# Altium footprint library STM32F4系列.PcbLib: 30 footprints (part 2 of 2)
Each footprint in its own frame and in the unit in brackets; x right, y up, seen from the top. Pads: shape width x height; smd on the part's side, far side on the other; paste and mask are expansions set on the pad; w line width, h text height; cw(c..) or ccw(c..) is an arc to the next point about the centre after c.
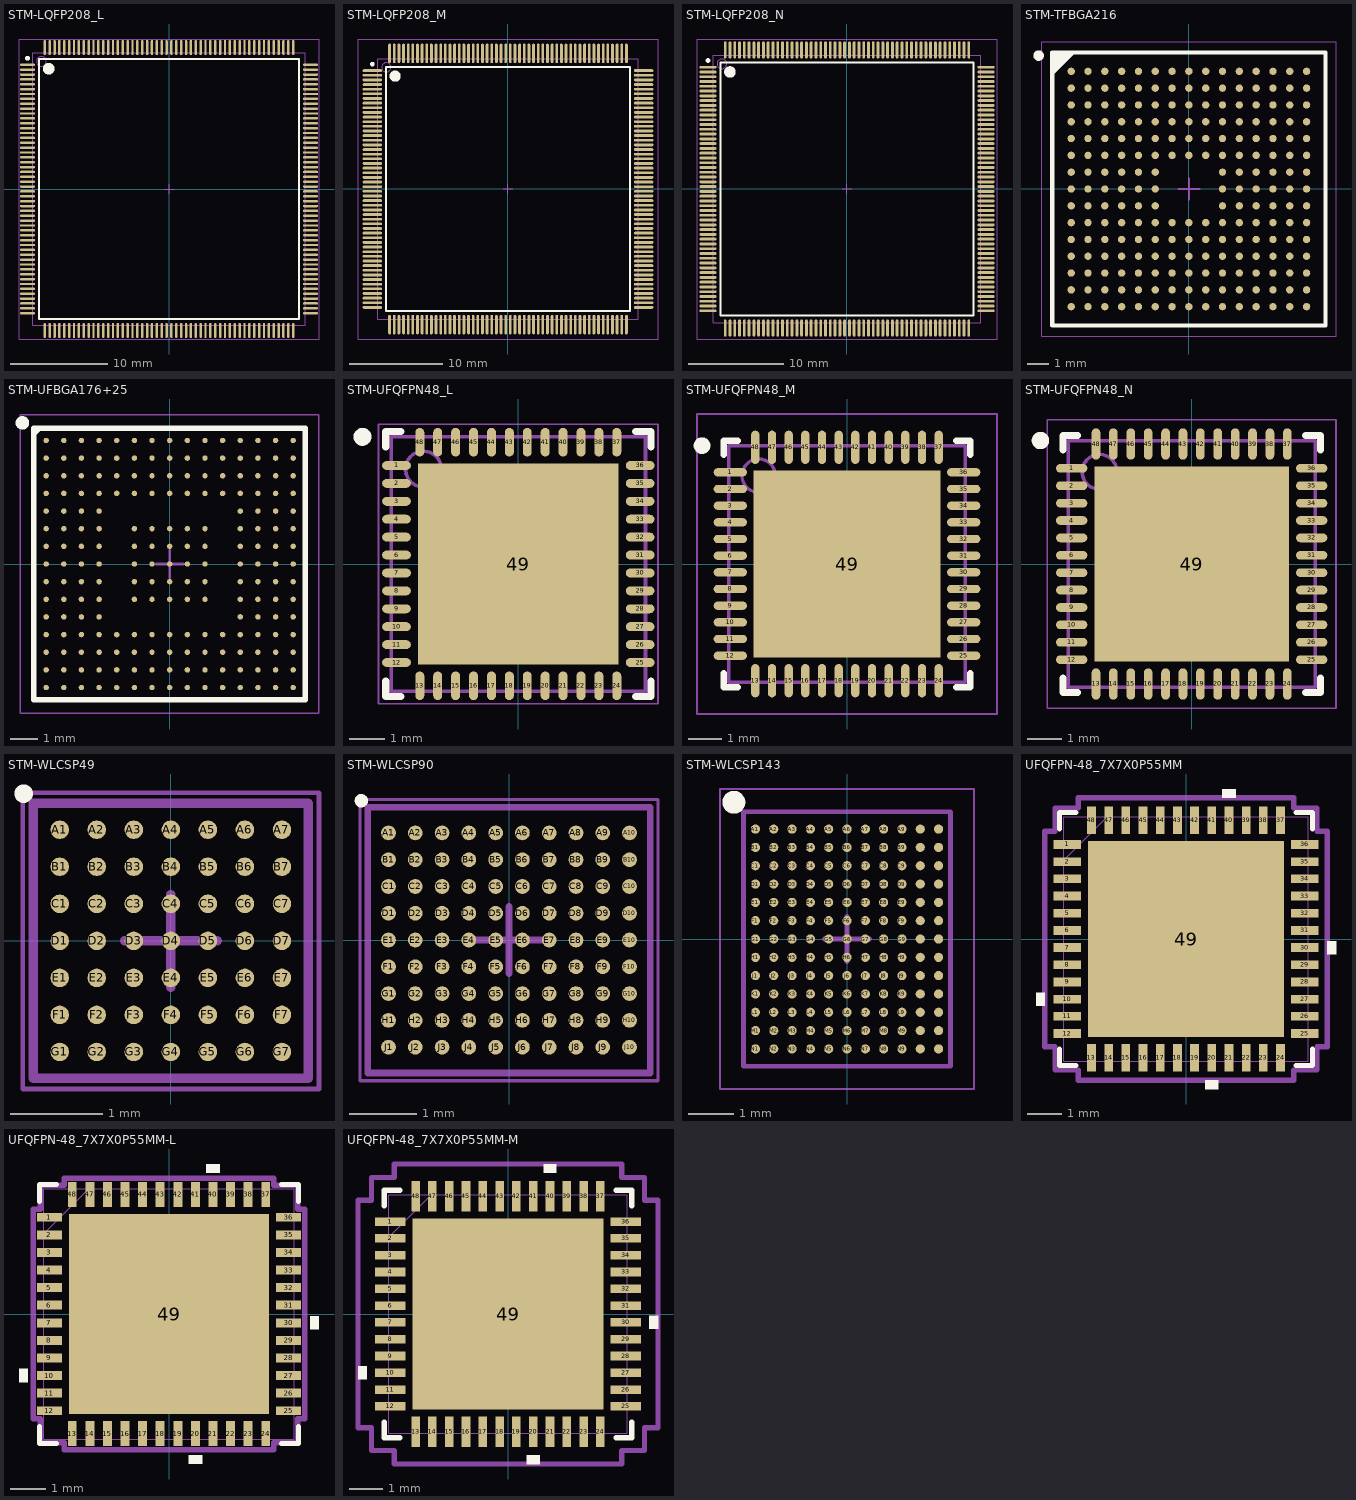
[diagram p1: the footprints below, top view; thin cyan lines are the x and y axes]

## STM-LQFP208_L [mm] "QFP, 208-Leads, Body 28x28mm, Pitch 0.5mm, IPC High Density"
height 1.6
pads (208):
  oval 1.55x0.25 smd: 1(-14.525,12.75) 2(-14.525,12.25) 3(-14.525,11.75) 4(-14.525,11.25) 5(-14.525,10.75) 6(-14.525,10.25) 7(-14.525,9.75) 8(-14.525,9.25) 9(-14.525,8.75) 10(-14.525,8.25) 11(-14.525,7.75) 12(-14.525,7.25) 13(-14.525,6.75) 14(-14.525,6.25) 15(-14.525,5.75) 16(-14.525,5.25) 17(-14.525,4.75) 18(-14.525,4.25) 19(-14.525,3.75) 20(-14.525,3.25) 21(-14.525,2.75) 22(-14.525,2.25) 23(-14.525,1.75) 24(-14.525,1.25) 25(-14.525,0.75) 26(-14.525,0.25) 27(-14.525,-0.25) 28(-14.525,-0.75) 29(-14.525,-1.25) 30(-14.525,-1.75) 31(-14.525,-2.25) 32(-14.525,-2.75) 33(-14.525,-3.25) 34(-14.525,-3.75) 35(-14.525,-4.25) 36(-14.525,-4.75) 37(-14.525,-5.25) 38(-14.525,-5.75) 39(-14.525,-6.25) 40(-14.525,-6.75) 41(-14.525,-7.25) 42(-14.525,-7.75) 43(-14.525,-8.25) 44(-14.525,-8.75) 45(-14.525,-9.25) 46(-14.525,-9.75) 47(-14.525,-10.25) 48(-14.525,-10.75) 49(-14.525,-11.25) 50(-14.525,-11.75) 51(-14.525,-12.25) 52(-14.525,-12.75) 105(14.525,-12.75) 106(14.525,-12.25) 107(14.525,-11.75) 108(14.525,-11.25) 109(14.525,-10.75) 110(14.525,-10.25) 111(14.525,-9.75) 112(14.525,-9.25) 113(14.525,-8.75) 114(14.525,-8.25) 115(14.525,-7.75) 116(14.525,-7.25) 117(14.525,-6.75) 118(14.525,-6.25) 119(14.525,-5.75) 120(14.525,-5.25) 121(14.525,-4.75) 122(14.525,-4.25) 123(14.525,-3.75) 124(14.525,-3.25) 125(14.525,-2.75) 126(14.525,-2.25) 127(14.525,-1.75) 128(14.525,-1.25) 129(14.525,-0.75) 130(14.525,-0.25) 131(14.525,0.25) 132(14.525,0.75) 133(14.525,1.25) 134(14.525,1.75) 135(14.525,2.25) 136(14.525,2.75) 137(14.525,3.25) 138(14.525,3.75) 139(14.525,4.25) 140(14.525,4.75) 141(14.525,5.25) 142(14.525,5.75) 143(14.525,6.25) 144(14.525,6.75) 145(14.525,7.25) 146(14.525,7.75) 147(14.525,8.25) 148(14.525,8.75) 149(14.525,9.25) 150(14.525,9.75) 151(14.525,10.25) 152(14.525,10.75) 153(14.525,11.25) 154(14.525,11.75) 155(14.525,12.25) 156(14.525,12.75)
  oval 0.25x1.55 smd: 53(-12.75,-14.525) 54(-12.25,-14.525) 55(-11.75,-14.525) 56(-11.25,-14.525) 57(-10.75,-14.525) 58(-10.25,-14.525) 59(-9.75,-14.525) 60(-9.25,-14.525) 61(-8.75,-14.525) 62(-8.25,-14.525) 63(-7.75,-14.525) 64(-7.25,-14.525) 65(-6.75,-14.525) 66(-6.25,-14.525) 67(-5.75,-14.525) 68(-5.25,-14.525) 69(-4.75,-14.525) 70(-4.25,-14.525) 71(-3.75,-14.525) 72(-3.25,-14.525) 73(-2.75,-14.525) 74(-2.25,-14.525) 75(-1.75,-14.525) 76(-1.25,-14.525) 77(-0.75,-14.525) 78(-0.25,-14.525) 79(0.25,-14.525) 80(0.75,-14.525) 81(1.25,-14.525) 82(1.75,-14.525) 83(2.25,-14.525) 84(2.75,-14.525) 85(3.25,-14.525) 86(3.75,-14.525) 87(4.25,-14.525) 88(4.75,-14.525) 89(5.25,-14.525) 90(5.75,-14.525) 91(6.25,-14.525) 92(6.75,-14.525) 93(7.25,-14.525) 94(7.75,-14.525) 95(8.25,-14.525) 96(8.75,-14.525) 97(9.25,-14.525) 98(9.75,-14.525) 99(10.25,-14.525) 100(10.75,-14.525) 101(11.25,-14.525) 102(11.75,-14.525) 103(12.25,-14.525) 104(12.75,-14.525) 157(12.75,14.525) 158(12.25,14.525) 159(11.75,14.525) 160(11.25,14.525) 161(10.75,14.525) 162(10.25,14.525) 163(9.75,14.525) 164(9.25,14.525) 165(8.75,14.525) 166(8.25,14.525) 167(7.75,14.525) 168(7.25,14.525) 169(6.75,14.525) 170(6.25,14.525) 171(5.75,14.525) 172(5.25,14.525) 173(4.75,14.525) 174(4.25,14.525) 175(3.75,14.525) 176(3.25,14.525) 177(2.75,14.525) 178(2.25,14.525) 179(1.75,14.525) 180(1.25,14.525) 181(0.75,14.525) 182(0.25,14.525) 183(-0.25,14.525) 184(-0.75,14.525) 185(-1.25,14.525) 186(-1.75,14.525) 187(-2.25,14.525) 188(-2.75,14.525) 189(-3.25,14.525) 190(-3.75,14.525) 191(-4.25,14.525) 192(-4.75,14.525) 193(-5.25,14.525) 194(-5.75,14.525) 195(-6.25,14.525) 196(-6.75,14.525) 197(-7.25,14.525) 198(-7.75,14.525) 199(-8.25,14.525) 200(-8.75,14.525) 201(-9.25,14.525) 202(-9.75,14.525) 203(-10.25,14.525) 204(-10.75,14.525) 205(-11.25,14.525) 206(-11.75,14.525) 207(-12.25,14.525) 208(-12.75,14.525)
Top Overlay:
  circle w0.25: c-14.525,13.425 r0.125
  circle w0.6: c-12.35,12.35 r0.3
  lines w0.2: -13.35,-13.35 -13.35,13.35 13.35,13.35 13.35,-13.35 -13.35,-13.35
Mechanical 13:
  circle w0.1: c-13.1,13.1 r0.5
  lines w0.1: -14,-14 -14,14 14,14 14,-14 -14,-14
Mechanical 15:
  lines w0.05: -15.4,-15.4 -15.4,15.4 15.4,15.4 15.4,-15.4 -15.4,-15.4
  lines w0.1: -0.5,0 0.5,0 ; 0,-0.5 0,0.5
3D body: height 1.6, standoff 0.05, extent -14,-14 14,14

## STM-LQFP208_M [mm] "QFP, 208-Leads, Body 28x28mm, Pitch 0.5mm, IPC Low Density"
height 1.6
pads (208):
  oval 2.1x0.3 smd: 1(-14.6,12.75) 2(-14.6,12.25) 3(-14.6,11.75) 4(-14.6,11.25) 5(-14.6,10.75) 6(-14.6,10.25) 7(-14.6,9.75) 8(-14.6,9.25) 9(-14.6,8.75) 10(-14.6,8.25) 11(-14.6,7.75) 12(-14.6,7.25) 13(-14.6,6.75) 14(-14.6,6.25) 15(-14.6,5.75) 16(-14.6,5.25) 17(-14.6,4.75) 18(-14.6,4.25) 19(-14.6,3.75) 20(-14.6,3.25) 21(-14.6,2.75) 22(-14.6,2.25) 23(-14.6,1.75) 24(-14.6,1.25) 25(-14.6,0.75) 26(-14.6,0.25) 27(-14.6,-0.25) 28(-14.6,-0.75) 29(-14.6,-1.25) 30(-14.6,-1.75) 31(-14.6,-2.25) 32(-14.6,-2.75) 33(-14.6,-3.25) 34(-14.6,-3.75) 35(-14.6,-4.25) 36(-14.6,-4.75) 37(-14.6,-5.25) 38(-14.6,-5.75) 39(-14.6,-6.25) 40(-14.6,-6.75) 41(-14.6,-7.25) 42(-14.6,-7.75) 43(-14.6,-8.25) 44(-14.6,-8.75) 45(-14.6,-9.25) 46(-14.6,-9.75) 47(-14.6,-10.25) 48(-14.6,-10.75) 49(-14.6,-11.25) 50(-14.6,-11.75) 51(-14.6,-12.25) 52(-14.6,-12.75) 105(14.6,-12.75) 106(14.6,-12.25) 107(14.6,-11.75) 108(14.6,-11.25) 109(14.6,-10.75) 110(14.6,-10.25) 111(14.6,-9.75) 112(14.6,-9.25) 113(14.6,-8.75) 114(14.6,-8.25) 115(14.6,-7.75) 116(14.6,-7.25) 117(14.6,-6.75) 118(14.6,-6.25) 119(14.6,-5.75) 120(14.6,-5.25) 121(14.6,-4.75) 122(14.6,-4.25) 123(14.6,-3.75) 124(14.6,-3.25) 125(14.6,-2.75) 126(14.6,-2.25) 127(14.6,-1.75) 128(14.6,-1.25) 129(14.6,-0.75) 130(14.6,-0.25) 131(14.6,0.25) 132(14.6,0.75) 133(14.6,1.25) 134(14.6,1.75) 135(14.6,2.25) 136(14.6,2.75) 137(14.6,3.25) 138(14.6,3.75) 139(14.6,4.25) 140(14.6,4.75) 141(14.6,5.25) 142(14.6,5.75) 143(14.6,6.25) 144(14.6,6.75) 145(14.6,7.25) 146(14.6,7.75) 147(14.6,8.25) 148(14.6,8.75) 149(14.6,9.25) 150(14.6,9.75) 151(14.6,10.25) 152(14.6,10.75) 153(14.6,11.25) 154(14.6,11.75) 155(14.6,12.25) 156(14.6,12.75)
  oval 0.3x2.1 smd: 53(-12.75,-14.6) 54(-12.25,-14.6) 55(-11.75,-14.6) 56(-11.25,-14.6) 57(-10.75,-14.6) 58(-10.25,-14.6) 59(-9.75,-14.6) 60(-9.25,-14.6) 61(-8.75,-14.6) 62(-8.25,-14.6) 63(-7.75,-14.6) 64(-7.25,-14.6) 65(-6.75,-14.6) 66(-6.25,-14.6) 67(-5.75,-14.6) 68(-5.25,-14.6) 69(-4.75,-14.6) 70(-4.25,-14.6) 71(-3.75,-14.6) 72(-3.25,-14.6) 73(-2.75,-14.6) 74(-2.25,-14.6) 75(-1.75,-14.6) 76(-1.25,-14.6) 77(-0.75,-14.6) 78(-0.25,-14.6) 79(0.25,-14.6) 80(0.75,-14.6) 81(1.25,-14.6) 82(1.75,-14.6) 83(2.25,-14.6) 84(2.75,-14.6) 85(3.25,-14.6) 86(3.75,-14.6) 87(4.25,-14.6) 88(4.75,-14.6) 89(5.25,-14.6) 90(5.75,-14.6) 91(6.25,-14.6) 92(6.75,-14.6) 93(7.25,-14.6) 94(7.75,-14.6) 95(8.25,-14.6) 96(8.75,-14.6) 97(9.25,-14.6) 98(9.75,-14.6) 99(10.25,-14.6) 100(10.75,-14.6) 101(11.25,-14.6) 102(11.75,-14.6) 103(12.25,-14.6) 104(12.75,-14.6) 157(12.75,14.6) 158(12.25,14.6) 159(11.75,14.6) 160(11.25,14.6) 161(10.75,14.6) 162(10.25,14.6) 163(9.75,14.6) 164(9.25,14.6) 165(8.75,14.6) 166(8.25,14.6) 167(7.75,14.6) 168(7.25,14.6) 169(6.75,14.6) 170(6.25,14.6) 171(5.75,14.6) 172(5.25,14.6) 173(4.75,14.6) 174(4.25,14.6) 175(3.75,14.6) 176(3.25,14.6) 177(2.75,14.6) 178(2.25,14.6) 179(1.75,14.6) 180(1.25,14.6) 181(0.75,14.6) 182(0.25,14.6) 183(-0.25,14.6) 184(-0.75,14.6) 185(-1.25,14.6) 186(-1.75,14.6) 187(-2.25,14.6) 188(-2.75,14.6) 189(-3.25,14.6) 190(-3.75,14.6) 191(-4.25,14.6) 192(-4.75,14.6) 193(-5.25,14.6) 194(-5.75,14.6) 195(-6.25,14.6) 196(-6.75,14.6) 197(-7.25,14.6) 198(-7.75,14.6) 199(-8.25,14.6) 200(-8.75,14.6) 201(-9.25,14.6) 202(-9.75,14.6) 203(-10.25,14.6) 204(-10.75,14.6) 205(-11.25,14.6) 206(-11.75,14.6) 207(-12.25,14.6) 208(-12.75,14.6)
Top Overlay:
  circle w0.25: c-14.6,13.45 r0.125
  circle w0.6: c-12.15,12.15 r0.3
  lines w0.2: -13.15,-13.15 -13.15,13.15 13.15,13.15 13.15,-13.15 -13.15,-13.15
Mechanical 13:
  circle w0.1: c-13.1,13.1 r0.5
  lines w0.1: -14,-14 -14,14 14,14 14,-14 -14,-14
Mechanical 15:
  lines w0.05: -16.15,-16.15 -16.15,16.15 16.15,16.15 16.15,-16.15 -16.15,-16.15
  lines w0.1: -0.5,0 0.5,0 ; 0,-0.5 0,0.5
3D body: height 1.6, standoff 0.05, extent -14,-14 14,14

## STM-LQFP208_N [mm] "QFP, 208-Leads, Body 28x28mm, Pitch 0.5mm, IPC Medium Density"
height 1.6
pads (208):
  oval 1.8x0.3 smd: 1(-14.55,12.75) 2(-14.55,12.25) 3(-14.55,11.75) 4(-14.55,11.25) 5(-14.55,10.75) 6(-14.55,10.25) 7(-14.55,9.75) 8(-14.55,9.25) 9(-14.55,8.75) 10(-14.55,8.25) 11(-14.55,7.75) 12(-14.55,7.25) 13(-14.55,6.75) 14(-14.55,6.25) 15(-14.55,5.75) 16(-14.55,5.25) 17(-14.55,4.75) 18(-14.55,4.25) 19(-14.55,3.75) 20(-14.55,3.25) 21(-14.55,2.75) 22(-14.55,2.25) 23(-14.55,1.75) 24(-14.55,1.25) 25(-14.55,0.75) 26(-14.55,0.25) 27(-14.55,-0.25) 28(-14.55,-0.75) 29(-14.55,-1.25) 30(-14.55,-1.75) 31(-14.55,-2.25) 32(-14.55,-2.75) 33(-14.55,-3.25) 34(-14.55,-3.75) 35(-14.55,-4.25) 36(-14.55,-4.75) 37(-14.55,-5.25) 38(-14.55,-5.75) 39(-14.55,-6.25) 40(-14.55,-6.75) 41(-14.55,-7.25) 42(-14.55,-7.75) 43(-14.55,-8.25) 44(-14.55,-8.75) 45(-14.55,-9.25) 46(-14.55,-9.75) 47(-14.55,-10.25) 48(-14.55,-10.75) 49(-14.55,-11.25) 50(-14.55,-11.75) 51(-14.55,-12.25) 52(-14.55,-12.75) 105(14.55,-12.75) 106(14.55,-12.25) 107(14.55,-11.75) 108(14.55,-11.25) 109(14.55,-10.75) 110(14.55,-10.25) 111(14.55,-9.75) 112(14.55,-9.25) 113(14.55,-8.75) 114(14.55,-8.25) 115(14.55,-7.75) 116(14.55,-7.25) 117(14.55,-6.75) 118(14.55,-6.25) 119(14.55,-5.75) 120(14.55,-5.25) 121(14.55,-4.75) 122(14.55,-4.25) 123(14.55,-3.75) 124(14.55,-3.25) 125(14.55,-2.75) 126(14.55,-2.25) 127(14.55,-1.75) 128(14.55,-1.25) 129(14.55,-0.75) 130(14.55,-0.25) 131(14.55,0.25) 132(14.55,0.75) 133(14.55,1.25) 134(14.55,1.75) 135(14.55,2.25) 136(14.55,2.75) 137(14.55,3.25) 138(14.55,3.75) 139(14.55,4.25) 140(14.55,4.75) 141(14.55,5.25) 142(14.55,5.75) 143(14.55,6.25) 144(14.55,6.75) 145(14.55,7.25) 146(14.55,7.75) 147(14.55,8.25) 148(14.55,8.75) 149(14.55,9.25) 150(14.55,9.75) 151(14.55,10.25) 152(14.55,10.75) 153(14.55,11.25) 154(14.55,11.75) 155(14.55,12.25) 156(14.55,12.75)
  oval 0.3x1.8 smd: 53(-12.75,-14.55) 54(-12.25,-14.55) 55(-11.75,-14.55) 56(-11.25,-14.55) 57(-10.75,-14.55) 58(-10.25,-14.55) 59(-9.75,-14.55) 60(-9.25,-14.55) 61(-8.75,-14.55) 62(-8.25,-14.55) 63(-7.75,-14.55) 64(-7.25,-14.55) 65(-6.75,-14.55) 66(-6.25,-14.55) 67(-5.75,-14.55) 68(-5.25,-14.55) 69(-4.75,-14.55) 70(-4.25,-14.55) 71(-3.75,-14.55) 72(-3.25,-14.55) 73(-2.75,-14.55) 74(-2.25,-14.55) 75(-1.75,-14.55) 76(-1.25,-14.55) 77(-0.75,-14.55) 78(-0.25,-14.55) 79(0.25,-14.55) 80(0.75,-14.55) 81(1.25,-14.55) 82(1.75,-14.55) 83(2.25,-14.55) 84(2.75,-14.55) 85(3.25,-14.55) 86(3.75,-14.55) 87(4.25,-14.55) 88(4.75,-14.55) 89(5.25,-14.55) 90(5.75,-14.55) 91(6.25,-14.55) 92(6.75,-14.55) 93(7.25,-14.55) 94(7.75,-14.55) 95(8.25,-14.55) 96(8.75,-14.55) 97(9.25,-14.55) 98(9.75,-14.55) 99(10.25,-14.55) 100(10.75,-14.55) 101(11.25,-14.55) 102(11.75,-14.55) 103(12.25,-14.55) 104(12.75,-14.55) 157(12.75,14.55) 158(12.25,14.55) 159(11.75,14.55) 160(11.25,14.55) 161(10.75,14.55) 162(10.25,14.55) 163(9.75,14.55) 164(9.25,14.55) 165(8.75,14.55) 166(8.25,14.55) 167(7.75,14.55) 168(7.25,14.55) 169(6.75,14.55) 170(6.25,14.55) 171(5.75,14.55) 172(5.25,14.55) 173(4.75,14.55) 174(4.25,14.55) 175(3.75,14.55) 176(3.25,14.55) 177(2.75,14.55) 178(2.25,14.55) 179(1.75,14.55) 180(1.25,14.55) 181(0.75,14.55) 182(0.25,14.55) 183(-0.25,14.55) 184(-0.75,14.55) 185(-1.25,14.55) 186(-1.75,14.55) 187(-2.25,14.55) 188(-2.75,14.55) 189(-3.25,14.55) 190(-3.75,14.55) 191(-4.25,14.55) 192(-4.75,14.55) 193(-5.25,14.55) 194(-5.75,14.55) 195(-6.25,14.55) 196(-6.75,14.55) 197(-7.25,14.55) 198(-7.75,14.55) 199(-8.25,14.55) 200(-8.75,14.55) 201(-9.25,14.55) 202(-9.75,14.55) 203(-10.25,14.55) 204(-10.75,14.55) 205(-11.25,14.55) 206(-11.75,14.55) 207(-12.25,14.55) 208(-12.75,14.55)
Top Overlay:
  circle w0.25: c-14.55,13.45 r0.125
  circle w0.6: c-12.25,12.25 r0.3
  lines w0.2: -13.25,-13.25 -13.25,13.25 13.25,13.25 13.25,-13.25 -13.25,-13.25
Mechanical 13:
  circle w0.1: c-13.1,13.1 r0.5
  lines w0.1: -14,-14 -14,14 14,14 14,-14 -14,-14
Mechanical 15:
  lines w0.05: -15.7,-15.7 -15.7,15.7 15.7,15.7 15.7,-15.7 -15.7,-15.7
  lines w0.1: -0.5,0 0.5,0 ; 0,-0.5 0,0.5
3D body: height 1.6, standoff 0.05, extent -14,-14 14,14

## STM-TFBGA216 [mm] "BGA, 216-Balls, Body 13x13mm, Pitch 0.8mm"
height 1.1
pads (216):
  round 0.35 smd: A1(-5.6,5.6) A2(-4.8,5.6) A3(-4,5.6) A4(-3.2,5.6) A5(-2.4,5.6) A6(-1.6,5.6) A7(-0.8,5.6) A8(0,5.6) A9(0.8,5.6) A10(1.6,5.6) A11(2.4,5.6) A12(3.2,5.6) A13(4,5.6) A14(4.8,5.6) A15(5.6,5.6) B1(-5.6,4.8) B2(-4.8,4.8) B3(-4,4.8) B4(-3.2,4.8) B5(-2.4,4.8) B6(-1.6,4.8) B7(-0.8,4.8) B8(0,4.8) B9(0.8,4.8) B10(1.6,4.8) B11(2.4,4.8) B12(3.2,4.8) B13(4,4.8) B14(4.8,4.8) B15(5.6,4.8) C1(-5.6,4) C2(-4.8,4) C3(-4,4) C4(-3.2,4) C5(-2.4,4) C6(-1.6,4) C7(-0.8,4) C8(0,4) C9(0.8,4) C10(1.6,4) C11(2.4,4) C12(3.2,4) C13(4,4) C14(4.8,4) C15(5.6,4) D1(-5.6,3.2) D2(-4.8,3.2) D3(-4,3.2) D4(-3.2,3.2) D5(-2.4,3.2) D6(-1.6,3.2) D7(-0.8,3.2) D8(0,3.2) D9(0.8,3.2) D10(1.6,3.2) D11(2.4,3.2) D12(3.2,3.2) D13(4,3.2) D14(4.8,3.2) D15(5.6,3.2) E1(-5.6,2.4) E2(-4.8,2.4) E3(-4,2.4) E4(-3.2,2.4) E5(-2.4,2.4) E6(-1.6,2.4) E7(-0.8,2.4) E8(0,2.4) E9(0.8,2.4) E10(1.6,2.4) E11(2.4,2.4) E12(3.2,2.4) E13(4,2.4) E14(4.8,2.4) E15(5.6,2.4) F1(-5.6,1.6) F2(-4.8,1.6) F3(-4,1.6) F4(-3.2,1.6) F5(-2.4,1.6) F6(-1.6,1.6) F7(-0.8,1.6) F8(0,1.6) F9(0.8,1.6) F10(1.6,1.6) F11(2.4,1.6) F12(3.2,1.6) F13(4,1.6) F14(4.8,1.6) F15(5.6,1.6) G1(-5.6,0.8) G2(-4.8,0.8) G3(-4,0.8) G4(-3.2,0.8) G5(-2.4,0.8) G6(-1.6,0.8) G10(1.6,0.8) G11(2.4,0.8) G12(3.2,0.8) G13(4,0.8) G14(4.8,0.8) G15(5.6,0.8) H1(-5.6,0) H2(-4.8,0) H3(-4,0) H4(-3.2,0) H5(-2.4,0) H6(-1.6,0) H10(1.6,0) H11(2.4,0) H12(3.2,0) H13(4,0) H14(4.8,0) H15(5.6,0) J1(-5.6,-0.8) J2(-4.8,-0.8) J3(-4,-0.8) J4(-3.2,-0.8) J5(-2.4,-0.8) J6(-1.6,-0.8) J10(1.6,-0.8) J11(2.4,-0.8) J12(3.2,-0.8) J13(4,-0.8) J14(4.8,-0.8) J15(5.6,-0.8) K1(-5.6,-1.6) K2(-4.8,-1.6) K3(-4,-1.6) K4(-3.2,-1.6) K5(-2.4,-1.6) K6(-1.6,-1.6) K7(-0.8,-1.6) K8(0,-1.6) K9(0.8,-1.6) K10(1.6,-1.6) K11(2.4,-1.6) K12(3.2,-1.6) K13(4,-1.6) K14(4.8,-1.6) K15(5.6,-1.6) L1(-5.6,-2.4) L2(-4.8,-2.4) L3(-4,-2.4) L4(-3.2,-2.4) L5(-2.4,-2.4) L6(-1.6,-2.4) L7(-0.8,-2.4) L8(0,-2.4) L9(0.8,-2.4) L10(1.6,-2.4) L11(2.4,-2.4) L12(3.2,-2.4) L13(4,-2.4) L14(4.8,-2.4) L15(5.6,-2.4) M1(-5.6,-3.2) M2(-4.8,-3.2) M3(-4,-3.2) M4(-3.2,-3.2) M5(-2.4,-3.2) M6(-1.6,-3.2) M7(-0.8,-3.2) M8(0,-3.2) M9(0.8,-3.2) M10(1.6,-3.2) M11(2.4,-3.2) M12(3.2,-3.2) M13(4,-3.2) M14(4.8,-3.2) M15(5.6,-3.2) N1(-5.6,-4) N2(-4.8,-4) N3(-4,-4) N4(-3.2,-4) N5(-2.4,-4) N6(-1.6,-4) N7(-0.8,-4) N8(0,-4) N9(0.8,-4) N10(1.6,-4) N11(2.4,-4) N12(3.2,-4) N13(4,-4) N14(4.8,-4) N15(5.6,-4) P1(-5.6,-4.8) P2(-4.8,-4.8) P3(-4,-4.8) P4(-3.2,-4.8) P5(-2.4,-4.8) P6(-1.6,-4.8) P7(-0.8,-4.8) P8(0,-4.8) P9(0.8,-4.8) P10(1.6,-4.8) P11(2.4,-4.8) P12(3.2,-4.8) P13(4,-4.8) P14(4.8,-4.8) P15(5.6,-4.8) R1(-5.6,-5.6) R2(-4.8,-5.6) R3(-4,-5.6) R4(-3.2,-5.6) R5(-2.4,-5.6) R6(-1.6,-5.6) R7(-0.8,-5.6) R8(0,-5.6) R9(0.8,-5.6) R10(1.6,-5.6) R11(2.4,-5.6) R12(3.2,-5.6) R13(4,-5.6) R14(4.8,-5.6) R15(5.6,-5.6)
Top Overlay:
  circle w0.25: c-7.15,6.35 r0.125
  region: -5.513,6.5 -6.5,5.513 -6.5,6.5
  lines w0.2: -6.5,5.513 -5.513,6.5 ; -6.5,-6.5 6.5,-6.5 6.5,6.5 -6.5,6.5 -6.5,-6.5
Mechanical 13:
  lines w0.1: -6.5,-6.5 6.5,-6.5 6.5,6.5 -6.5,6.5 -6.5,-6.5
Mechanical 15:
  lines w0.05: -7,-7 7,-7 7,7 -7,7 -7,-7
  lines w0.1: -0.5,0 0.5,0 ; 0,-0.5 0,0.5
3D body: height 1.1, standoff 0.15, extent -6.5,-6.5 6.5,6.5

## STM-UFBGA176+25 [mm] "BGA, 201-Balls, Body 10x10mm, Pitch 0.65mm"
height 0.6
pads (201):
  round 0.2 smd: A1(-4.55,4.55) A2(-3.9,4.55) A3(-3.25,4.55) A4(-2.6,4.55) A5(-1.95,4.55) A6(-1.3,4.55) A7(-0.65,4.55) A8(0,4.55) A9(0.65,4.55) A10(1.3,4.55) A11(1.95,4.55) A12(2.6,4.55) A13(3.25,4.55) A14(3.9,4.55) A15(4.55,4.55) B1(-4.55,3.9) B2(-3.9,3.9) B3(-3.25,3.9) B4(-2.6,3.9) B5(-1.95,3.9) B6(-1.3,3.9) B7(-0.65,3.9) B8(0,3.9) B9(0.65,3.9) B10(1.3,3.9) B11(1.95,3.9) B12(2.6,3.9) B13(3.25,3.9) B14(3.9,3.9) B15(4.55,3.9) C1(-4.55,3.25) C2(-3.9,3.25) C3(-3.25,3.25) C4(-2.6,3.25) C5(-1.95,3.25) C6(-1.3,3.25) C7(-0.65,3.25) C8(0,3.25) C9(0.65,3.25) C10(1.3,3.25) C11(1.95,3.25) C12(2.6,3.25) C13(3.25,3.25) C14(3.9,3.25) C15(4.55,3.25) D1(-4.55,2.6) D2(-3.9,2.6) D3(-3.25,2.6) D4(-2.6,2.6) D5(-1.95,2.6) D6(-1.3,2.6) D7(-0.65,2.6) D8(0,2.6) D9(0.65,2.6) D10(1.3,2.6) D11(1.95,2.6) D12(2.6,2.6) D13(3.25,2.6) D14(3.9,2.6) D15(4.55,2.6) E1(-4.55,1.95) E2(-3.9,1.95) E3(-3.25,1.95) E4(-2.6,1.95) E12(2.6,1.95) E13(3.25,1.95) E14(3.9,1.95) E15(4.55,1.95) F1(-4.55,1.3) F2(-3.9,1.3) F3(-3.25,1.3) F4(-2.6,1.3) F6(-1.3,1.3) F7(-0.65,1.3) F8(0,1.3) F9(0.65,1.3) F10(1.3,1.3) F12(2.6,1.3) F13(3.25,1.3) F14(3.9,1.3) F15(4.55,1.3) G1(-4.55,0.65) G2(-3.9,0.65) G3(-3.25,0.65) G4(-2.6,0.65) G6(-1.3,0.65) G7(-0.65,0.65) G8(0,0.65) G9(0.65,0.65) G10(1.3,0.65) G12(2.6,0.65) G13(3.25,0.65) G14(3.9,0.65) G15(4.55,0.65) H1(-4.55,0) H2(-3.9,0) H3(-3.25,0) H4(-2.6,0) H6(-1.3,0) H7(-0.65,0) H8(0,0) H9(0.65,0) H10(1.3,0) H12(2.6,0) H13(3.25,0) H14(3.9,0) H15(4.55,0) J1(-4.55,-0.65) J2(-3.9,-0.65) J3(-3.25,-0.65) J4(-2.6,-0.65) J6(-1.3,-0.65) J7(-0.65,-0.65) J8(0,-0.65) J9(0.65,-0.65) J10(1.3,-0.65) J12(2.6,-0.65) J13(3.25,-0.65) J14(3.9,-0.65) J15(4.55,-0.65) K1(-4.55,-1.3) K2(-3.9,-1.3) K3(-3.25,-1.3) K4(-2.6,-1.3) K6(-1.3,-1.3) K7(-0.65,-1.3) K8(0,-1.3) K9(0.65,-1.3) K10(1.3,-1.3) K12(2.6,-1.3) K13(3.25,-1.3) K14(3.9,-1.3) K15(4.55,-1.3) L1(-4.55,-1.95) L2(-3.9,-1.95) L3(-3.25,-1.95) L4(-2.6,-1.95) L12(2.6,-1.95) L13(3.25,-1.95) L14(3.9,-1.95) L15(4.55,-1.95) M1(-4.55,-2.6) M2(-3.9,-2.6) M3(-3.25,-2.6) M4(-2.6,-2.6) M5(-1.95,-2.6) M6(-1.3,-2.6) M7(-0.65,-2.6) M8(0,-2.6) M9(0.65,-2.6) M10(1.3,-2.6) M11(1.95,-2.6) M12(2.6,-2.6) M13(3.25,-2.6) M14(3.9,-2.6) M15(4.55,-2.6) N1(-4.55,-3.25) N2(-3.9,-3.25) N3(-3.25,-3.25) N4(-2.6,-3.25) N5(-1.95,-3.25) N6(-1.3,-3.25) N7(-0.65,-3.25) N8(0,-3.25) N9(0.65,-3.25) N10(1.3,-3.25) N11(1.95,-3.25) N12(2.6,-3.25) N13(3.25,-3.25) N14(3.9,-3.25) N15(4.55,-3.25) P1(-4.55,-3.9) P2(-3.9,-3.9) P3(-3.25,-3.9) P4(-2.6,-3.9) P5(-1.95,-3.9) P6(-1.3,-3.9) P7(-0.65,-3.9) P8(0,-3.9) P9(0.65,-3.9) P10(1.3,-3.9) P11(1.95,-3.9) P12(2.6,-3.9) P13(3.25,-3.9) P14(3.9,-3.9) P15(4.55,-3.9) R1(-4.55,-4.55) R2(-3.9,-4.55) R3(-3.25,-4.55) R4(-2.6,-4.55) R5(-1.95,-4.55) R6(-1.3,-4.55) R7(-0.65,-4.55) R8(0,-4.55) R9(0.65,-4.55) R10(1.3,-4.55) R11(1.95,-4.55) R12(2.6,-4.55) R13(3.25,-4.55) R14(3.9,-4.55) R15(4.55,-4.55)
Top Overlay:
  circle w0.25: c-5.425,5.2 r0.125
  region: -4.678,5 -5,4.678 -5,5
  lines w0.2: -5,-5 -5,5 5,5 5,-5 -5,-5
Mechanical 13:
  lines w0.1: -5,-5 -5,5 5,5 5,-5 -5,-5
Mechanical 15:
  lines w0.05: -5.5,-5.5 -5.5,5.5 5.5,5.5 5.5,-5.5 -5.5,-5.5
  lines w0.1: -0.5,0 0.5,0 ; 0,-0.5 0,0.5
3D body: height 0.6, standoff 0, extent -5,-5 5,5

## STM-UFQFPN48_L [mm] "QFN, 48-Leads, Body 7.1x7.1mm, Pitch 0.5mm, Thermal Pad 5.6x5.6mm, IPC High Density"
height 0.6
pads (49):
  oval 0.8x0.25 smd: 1(-3.4,2.75) 2(-3.4,2.25) 3(-3.4,1.75) 4(-3.4,1.25) 5(-3.4,0.75) 6(-3.4,0.25) 7(-3.4,-0.25) 8(-3.4,-0.75) 9(-3.4,-1.25) 10(-3.4,-1.75) 11(-3.4,-2.25) 12(-3.4,-2.75) 25(3.4,-2.75) 26(3.4,-2.25) 27(3.4,-1.75) 28(3.4,-1.25) 29(3.4,-0.75) 30(3.4,-0.25) 31(3.4,0.25) 32(3.4,0.75) 33(3.4,1.25) 34(3.4,1.75) 35(3.4,2.25) 36(3.4,2.75)
  oval 0.25x0.8 smd: 13(-2.75,-3.4) 14(-2.25,-3.4) 15(-1.75,-3.4) 16(-1.25,-3.4) 17(-0.75,-3.4) 18(-0.25,-3.4) 19(0.25,-3.4) 20(0.75,-3.4) 21(1.25,-3.4) 22(1.75,-3.4) 23(2.25,-3.4) 24(2.75,-3.4) 37(2.75,3.4) 38(2.25,3.4) 39(1.75,3.4) 40(1.25,3.4) 41(0.75,3.4) 42(0.25,3.4) 43(-0.25,3.4) 44(-0.75,3.4) 45(-1.25,3.4) 46(-1.75,3.4) 47(-2.25,3.4) 48(-2.75,3.4)
  rect 5.6x5.6 smd: 49(0,0)
Top Overlay:
  circle w0.25: c-4.35,3.55 r0.125
  lines w0.2: -3.7,-3.275 -3.7,-3.7 -3.275,-3.7 ; -3.7,3.275 -3.7,3.7 -3.275,3.7 ; 3.275,-3.7 3.7,-3.7 3.7,-3.275 ; 3.275,3.7 3.7,3.7 3.7,3.275
Mechanical 13:
  circle w0.1: c-2.65,2.65 r0.5
  lines w0.1: -3.55,-3.55 3.55,-3.55 3.55,3.55 -3.55,3.55 -3.55,-3.55
Mechanical 15:
  lines w0.05: -3.9,-3.9 3.9,-3.9 3.9,3.9 -3.9,3.9 -3.9,-3.9
  lines w0.1: -0.5,0 0.5,0 ; 0,-0.5 0,0.5
3D body: height 0.6, standoff 0, extent -3.55,-3.55 3.55,3.55

## STM-UFQFPN48_M [mm] "QFN, 48-Leads, Body 7.1x7.1mm, Pitch 0.5mm, Thermal Pad 5.6x5.6mm, IPC Low Density"
height 0.6
pads (49):
  oval 1x0.25 smd: 1(-3.5,2.75) 2(-3.5,2.25) 3(-3.5,1.75) 4(-3.5,1.25) 5(-3.5,0.75) 6(-3.5,0.25) 7(-3.5,-0.25) 8(-3.5,-0.75) 9(-3.5,-1.25) 10(-3.5,-1.75) 11(-3.5,-2.25) 12(-3.5,-2.75) 25(3.5,-2.75) 26(3.5,-2.25) 27(3.5,-1.75) 28(3.5,-1.25) 29(3.5,-0.75) 30(3.5,-0.25) 31(3.5,0.25) 32(3.5,0.75) 33(3.5,1.25) 34(3.5,1.75) 35(3.5,2.25) 36(3.5,2.75)
  oval 0.25x1 smd: 13(-2.75,-3.5) 14(-2.25,-3.5) 15(-1.75,-3.5) 16(-1.25,-3.5) 17(-0.75,-3.5) 18(-0.25,-3.5) 19(0.25,-3.5) 20(0.75,-3.5) 21(1.25,-3.5) 22(1.75,-3.5) 23(2.25,-3.5) 24(2.75,-3.5) 37(2.75,3.5) 38(2.25,3.5) 39(1.75,3.5) 40(1.25,3.5) 41(0.75,3.5) 42(0.25,3.5) 43(-0.25,3.5) 44(-0.75,3.5) 45(-1.25,3.5) 46(-1.75,3.5) 47(-2.25,3.5) 48(-2.75,3.5)
  rect 5.6x5.6 smd: 49(0,0)
Top Overlay:
  circle w0.25: c-4.35,3.55 r0.125
  lines w0.2: -3.7,-3.275 -3.7,-3.7 -3.275,-3.7 ; -3.7,3.275 -3.7,3.7 -3.275,3.7 ; 3.275,-3.7 3.7,-3.7 3.7,-3.275 ; 3.275,3.7 3.7,3.7 3.7,3.275
Mechanical 13:
  circle w0.1: c-2.65,2.65 r0.5
  lines w0.1: -3.55,-3.55 3.55,-3.55 3.55,3.55 -3.55,3.55 -3.55,-3.55
Mechanical 15:
  lines w0.05: -4.5,-4.5 4.5,-4.5 4.5,4.5 -4.5,4.5 -4.5,-4.5
  lines w0.1: -0.5,0 0.5,0 ; 0,-0.5 0,0.5
3D body: height 0.6, standoff 0, extent -3.55,-3.55 3.55,3.55

## STM-UFQFPN48_N [mm] "QFN, 48-Leads, Body 7.1x7.1mm, Pitch 0.5mm, Thermal Pad 5.6x5.6mm, IPC Medium Density"
height 0.6
pads (49):
  oval 0.9x0.25 smd: 1(-3.45,2.75) 2(-3.45,2.25) 3(-3.45,1.75) 4(-3.45,1.25) 5(-3.45,0.75) 6(-3.45,0.25) 7(-3.45,-0.25) 8(-3.45,-0.75) 9(-3.45,-1.25) 10(-3.45,-1.75) 11(-3.45,-2.25) 12(-3.45,-2.75) 25(3.45,-2.75) 26(3.45,-2.25) 27(3.45,-1.75) 28(3.45,-1.25) 29(3.45,-0.75) 30(3.45,-0.25) 31(3.45,0.25) 32(3.45,0.75) 33(3.45,1.25) 34(3.45,1.75) 35(3.45,2.25) 36(3.45,2.75)
  oval 0.25x0.9 smd: 13(-2.75,-3.45) 14(-2.25,-3.45) 15(-1.75,-3.45) 16(-1.25,-3.45) 17(-0.75,-3.45) 18(-0.25,-3.45) 19(0.25,-3.45) 20(0.75,-3.45) 21(1.25,-3.45) 22(1.75,-3.45) 23(2.25,-3.45) 24(2.75,-3.45) 37(2.75,3.45) 38(2.25,3.45) 39(1.75,3.45) 40(1.25,3.45) 41(0.75,3.45) 42(0.25,3.45) 43(-0.25,3.45) 44(-0.75,3.45) 45(-1.25,3.45) 46(-1.75,3.45) 47(-2.25,3.45) 48(-2.75,3.45)
  rect 5.6x5.6 smd: 49(0,0)
Top Overlay:
  circle w0.25: c-4.35,3.55 r0.125
  lines w0.2: -3.7,-3.275 -3.7,-3.7 -3.275,-3.7 ; -3.7,3.275 -3.7,3.7 -3.275,3.7 ; 3.275,-3.7 3.7,-3.7 3.7,-3.275 ; 3.275,3.7 3.7,3.7 3.7,3.275
Mechanical 13:
  circle w0.1: c-2.65,2.65 r0.5
  lines w0.1: -3.55,-3.55 -3.55,3.55 3.55,3.55 3.55,-3.55 -3.55,-3.55
Mechanical 15:
  lines w0.05: -4.15,-4.15 -4.15,4.15 4.15,4.15 4.15,-4.15 -4.15,-4.15
  lines w0.1: -0.5,0 0.5,0 ; 0,-0.5 0,0.5
3D body: height 0.6, standoff 0, extent -3.55,-3.55 3.55,3.55

## STM-WLCSP49 [mm] "BGA, 49-Balls, Body 2.97x2.97mm, Pitch 0.4mm"
height 0.59
pads (49):
  round 0.2 smd: A1(-1.2,1.2) A2(-0.8,1.2) A3(-0.4,1.2) A4(0,1.2) A5(0.4,1.2) A6(0.8,1.2) A7(1.2,1.2) B1(-1.2,0.8) B2(-0.8,0.8) B3(-0.4,0.8) B4(0,0.8) B5(0.4,0.8) B6(0.8,0.8) B7(1.2,0.8) C1(-1.2,0.4) C2(-0.8,0.4) C3(-0.4,0.4) C4(0,0.4) C5(0.4,0.4) C6(0.8,0.4) C7(1.2,0.4) D1(-1.2,0) D2(-0.8,0) D3(-0.4,0) D4(0,0) D5(0.4,0) D6(0.8,0) D7(1.2,0) E1(-1.2,-0.4) E2(-0.8,-0.4) E3(-0.4,-0.4) E4(0,-0.4) E5(0.4,-0.4) E6(0.8,-0.4) E7(1.2,-0.4) F1(-1.2,-0.8) F2(-0.8,-0.8) F3(-0.4,-0.8) F4(0,-0.8) F5(0.4,-0.8) F6(0.8,-0.8) F7(1.2,-0.8) G1(-1.2,-1.2) G2(-0.8,-1.2) G3(-0.4,-1.2) G4(0,-1.2) G5(0.4,-1.2) G6(0.8,-1.2) G7(1.2,-1.2)
Top Overlay:
  circle w0.1: c-1.59,1.59 r0.05
Mechanical 13:
  lines w0.1: -1.485,-1.485 -1.485,1.485 1.485,1.485 1.485,-1.485 -1.485,-1.485
Mechanical 15:
  lines w0.05: -1.6,-1.6 -1.6,1.6 1.6,1.6 1.6,-1.6 -1.6,-1.6
  lines w0.1: -0.5,0 0.5,0 ; 0,-0.5 0,0.5
3D body: height 0.59, standoff 0.18, extent -1.485,-1.485 1.485,1.485

## STM-WLCSP90 [mm] "BGA, 90-Leads, Body 3.97x4.22mm, Pitch 0.4mm"
height 0.62
pads (90):
  round 0.22 smd: A1(-1.8,1.6) A2(-1.4,1.6) A3(-1,1.6) A4(-0.6,1.6) A5(-0.2,1.6) A6(0.2,1.6) A7(0.6,1.6) A8(1,1.6) A9(1.4,1.6) A10(1.8,1.6) B1(-1.8,1.2) B2(-1.4,1.2) B3(-1,1.2) B4(-0.6,1.2) B5(-0.2,1.2) B6(0.2,1.2) B7(0.6,1.2) B8(1,1.2) B9(1.4,1.2) B10(1.8,1.2) C1(-1.8,0.8) C2(-1.4,0.8) C3(-1,0.8) C4(-0.6,0.8) C5(-0.2,0.8) C6(0.2,0.8) C7(0.6,0.8) C8(1,0.8) C9(1.4,0.8) C10(1.8,0.8) D1(-1.8,0.4) D2(-1.4,0.4) D3(-1,0.4) D4(-0.6,0.4) D5(-0.2,0.4) D6(0.2,0.4) D7(0.6,0.4) D8(1,0.4) D9(1.4,0.4) D10(1.8,0.4) E1(-1.8,0) E2(-1.4,0) E3(-1,0) E4(-0.6,0) E5(-0.2,0) E6(0.2,0) E7(0.6,0) E8(1,0) E9(1.4,0) E10(1.8,0) F1(-1.8,-0.4) F2(-1.4,-0.4) F3(-1,-0.4) F4(-0.6,-0.4) F5(-0.2,-0.4) F6(0.2,-0.4) F7(0.6,-0.4) F8(1,-0.4) F9(1.4,-0.4) F10(1.8,-0.4) G1(-1.8,-0.8) G2(-1.4,-0.8) G3(-1,-0.8) G4(-0.6,-0.8) G5(-0.2,-0.8) G6(0.2,-0.8) G7(0.6,-0.8) G8(1,-0.8) G9(1.4,-0.8) G10(1.8,-0.8) H1(-1.8,-1.2) H2(-1.4,-1.2) H3(-1,-1.2) H4(-0.6,-1.2) H5(-0.2,-1.2) H6(0.2,-1.2) H7(0.6,-1.2) H8(1,-1.2) H9(1.4,-1.2) H10(1.8,-1.2) J1(-1.8,-1.6) J2(-1.4,-1.6) J3(-1,-1.6) J4(-0.6,-1.6) J5(-0.2,-1.6) J6(0.2,-1.6) J7(0.6,-1.6) J8(1,-1.6) J9(1.4,-1.6) J10(1.8,-1.6)
Top Overlay:
  circle w0.1: c-2.206,2.081 r0.05
Mechanical 13:
  lines w0.1: -2.11,-1.985 2.11,-1.985 2.11,1.985 -2.11,1.985 -2.11,-1.985
Mechanical 15:
  lines w0.05: -2.225,-2.1 -2.225,2.1 2.225,2.1 2.225,-2.1 -2.225,-2.1
  lines w0.1: -0.5,0 0.5,0 ; 0,-0.5 0,0.5
3D body: height 0.62, standoff 0.17, extent -2.109,-1.984 2.109,1.984

## STM-WLCSP143 [mm] "BGA, 143-Balls, Body 5.55x4.52mm, Pitch 0.4mm"
height 0.585
pads (143):
  round 0.2 smd: A1(-2,2.4) A2(-1.6,2.4) A3(-1.2,2.4) A4(-0.8,2.4) A5(-0.4,2.4) A6(0,2.4) A7(0.4,2.4) A8(0.8,2.4) A9(1.2,2.4) A10(1.6,2.4) A11(2,2.4) B1(-2,2) B2(-1.6,2) B3(-1.2,2) B4(-0.8,2) B5(-0.4,2) B6(0,2) B7(0.4,2) B8(0.8,2) B9(1.2,2) B10(1.6,2) B11(2,2) C1(-2,1.6) C2(-1.6,1.6) C3(-1.2,1.6) C4(-0.8,1.6) C5(-0.4,1.6) C6(0,1.6) C7(0.4,1.6) C8(0.8,1.6) C9(1.2,1.6) C10(1.6,1.6) C11(2,1.6) D1(-2,1.2) D2(-1.6,1.2) D3(-1.2,1.2) D4(-0.8,1.2) D5(-0.4,1.2) D6(0,1.2) D7(0.4,1.2) D8(0.8,1.2) D9(1.2,1.2) D10(1.6,1.2) D11(2,1.2) E1(-2,0.8) E2(-1.6,0.8) E3(-1.2,0.8) E4(-0.8,0.8) E5(-0.4,0.8) E6(0,0.8) E7(0.4,0.8) E8(0.8,0.8) E9(1.2,0.8) E10(1.6,0.8) E11(2,0.8) F1(-2,0.4) F2(-1.6,0.4) F3(-1.2,0.4) F4(-0.8,0.4) F5(-0.4,0.4) F6(0,0.4) F7(0.4,0.4) F8(0.8,0.4) F9(1.2,0.4) F10(1.6,0.4) F11(2,0.4) G1(-2,0) G2(-1.6,0) G3(-1.2,0) G4(-0.8,0) G5(-0.4,0) G6(0,0) G7(0.4,0) G8(0.8,0) G9(1.2,0) G10(1.6,0) G11(2,0) H1(-2,-0.4) H2(-1.6,-0.4) H3(-1.2,-0.4) H4(-0.8,-0.4) H5(-0.4,-0.4) H6(0,-0.4) H7(0.4,-0.4) H8(0.8,-0.4) H9(1.2,-0.4) H10(1.6,-0.4) H11(2,-0.4) J1(-2,-0.8) J2(-1.6,-0.8) J3(-1.2,-0.8) J4(-0.8,-0.8) J5(-0.4,-0.8) J6(0,-0.8) J7(0.4,-0.8) J8(0.8,-0.8) J9(1.2,-0.8) J10(1.6,-0.8) J11(2,-0.8) K1(-2,-1.2) K2(-1.6,-1.2) K3(-1.2,-1.2) K4(-0.8,-1.2) K5(-0.4,-1.2) K6(0,-1.2) K7(0.4,-1.2) K8(0.8,-1.2) K9(1.2,-1.2) K10(1.6,-1.2) K11(2,-1.2) L1(-2,-1.6) L2(-1.6,-1.6) L3(-1.2,-1.6) L4(-0.8,-1.6) L5(-0.4,-1.6) L6(0,-1.6) L7(0.4,-1.6) L8(0.8,-1.6) L9(1.2,-1.6) L10(1.6,-1.6) L11(2,-1.6) M1(-2,-2) M2(-1.6,-2) M3(-1.2,-2) M4(-0.8,-2) M5(-0.4,-2) M6(0,-2) M7(0.4,-2) M8(0.8,-2) M9(1.2,-2) M10(1.6,-2) M11(2,-2) N1(-2,-2.4) N2(-1.6,-2.4) N3(-1.2,-2.4) N4(-0.8,-2.4) N5(-0.4,-2.4) N6(0,-2.4) N7(0.4,-2.4) N8(0.8,-2.4) N9(1.2,-2.4) N10(1.6,-2.4) N11(2,-2.4)
Top Overlay:
  circle w0.25: c-2.47,2.985 r0.125
Mechanical 13:
  lines w0.1: -2.26,-2.775 -2.26,2.775 2.26,2.775 2.26,-2.775 -2.26,-2.775
Mechanical 15:
  lines w0.05: -2.775,-3.275 -2.775,3.275 2.775,3.275 2.775,-3.275 -2.775,-3.275
  lines w0.1: -0.5,0 0.5,0 ; 0,-0.5 0,0.5
3D body: height 0.59, standoff 0.18, extent -2.26,-2.775 2.26,2.775

## UFQFPN-48_7X7X0P55MM [mm]
pads (49):
  rect 0.808x0.255 smd: 1(-3.452,2.75) 2(-3.452,2.25) 3(-3.452,1.75) 4(-3.452,1.25) 5(-3.452,0.75) 6(-3.452,0.25) 7(-3.452,-0.25) 8(-3.452,-0.75) 9(-3.452,-1.25) 10(-3.452,-1.75) 11(-3.452,-2.25) 12(-3.452,-2.75) 25(3.452,-2.75) 26(3.452,-2.25) 27(3.452,-1.75) 28(3.452,-1.25) 29(3.452,-0.75) 30(3.452,-0.25) 31(3.452,0.25) 32(3.452,0.75) 33(3.452,1.25) 34(3.452,1.75) 35(3.452,2.25) 36(3.452,2.75)
  rect 0.255x0.808 smd: 13(-2.75,-3.452) 14(-2.25,-3.452) 15(-1.75,-3.452) 16(-1.25,-3.452) 17(-0.75,-3.452) 18(-0.25,-3.452) 19(0.25,-3.452) 20(0.75,-3.452) 21(1.25,-3.452) 22(1.75,-3.452) 23(2.25,-3.452) 24(2.75,-3.452) 37(2.75,3.452) 38(2.25,3.452) 39(1.75,3.452) 40(1.25,3.452) 41(0.75,3.452) 42(0.25,3.452) 43(-0.25,3.452) 44(-0.75,3.452) 45(-1.25,3.452) 46(-1.75,3.452) 47(-2.25,3.452) 48(-2.75,3.452)
  rect 5.69x5.69 smd: 49(0,0)
Top Overlay:
  region: 1.441,4.11 1.06,4.11 1.06,4.364 1.441,4.364
  region: 4.11,-0.059 4.364,-0.059 4.364,-0.44 4.11,-0.44
  region: 0.941,-4.11 0.56,-4.11 0.56,-4.364 0.941,-4.364
  region: -4.11,-1.559 -4.364,-1.559 -4.364,-1.94 -4.11,-1.94
  lines w0.152: -3.683,-3.21 -3.683,-3.683 -3.21,-3.683 ; -3.683,3.21 -3.683,3.683 -3.21,3.683 ; 3.21,-3.683 3.683,-3.683 3.683,-3.21 ; 3.21,3.683 3.683,3.683 3.683,3.21
Mechanical 13:
  lines w0.025: -3.556,2.286 -2.286,3.556 ; -3.556,-3.556 -3.556,3.556 3.556,3.556 3.556,-3.556 -3.556,-3.556 ; -3.556,-2.902 -3.556,-2.598 -3.556,-2.902 ; -3.556,-2.402 -3.556,-2.098 -3.556,-2.402 ; -3.556,-1.902 -3.556,-1.598 -3.556,-1.902 ; -3.556,-1.402 -3.556,-1.098 -3.556,-1.402 ; -3.556,-0.902 -3.556,-0.598 -3.556,-0.902 ; -3.556,-0.402 -3.556,-0.098 -3.556,-0.402 ; -3.556,0.098 -3.556,0.402 -3.556,0.098 ; -3.556,0.598 -3.556,0.902 -3.556,0.598 ; -3.556,1.098 -3.556,1.402 -3.556,1.098 ; -3.556,1.598 -3.556,1.902 -3.556,1.598 ; -3.556,2.098 -3.556,2.402 -3.556,2.098 ; -3.556,2.598 -3.556,2.902 -3.556,2.598 ; -2.902,-3.556 -2.598,-3.556 -2.902,-3.556 ; -2.902,3.556 -2.598,3.556 -2.902,3.556 ; -2.402,-3.556 -2.098,-3.556 -2.402,-3.556 ; -2.402,3.556 -2.098,3.556 -2.402,3.556 ; -1.902,-3.556 -1.598,-3.556 -1.902,-3.556 ; -1.902,3.556 -1.598,3.556 -1.902,3.556 ; -1.402,-3.556 -1.098,-3.556 -1.402,-3.556 ; -1.402,3.556 -1.098,3.556 -1.402,3.556 ; -0.902,-3.556 -0.598,-3.556 -0.902,-3.556 ; -0.902,3.556 -0.598,3.556 -0.902,3.556 ; -0.402,-3.556 -0.098,-3.556 -0.402,-3.556 ; -0.402,3.556 -0.098,3.556 -0.402,3.556 ; 0.098,-3.556 0.402,-3.556 0.098,-3.556 ; 0.098,3.556 0.402,3.556 0.098,3.556 ; 0.598,-3.556 0.902,-3.556 0.598,-3.556 ; 0.598,3.556 0.902,3.556 0.598,3.556 ; 1.098,-3.556 1.402,-3.556 1.098,-3.556 ; 1.098,3.556 1.402,3.556 1.098,3.556 ; 1.598,-3.556 1.902,-3.556 1.598,-3.556 ; 1.598,3.556 1.902,3.556 1.598,3.556 ; 2.098,-3.556 2.402,-3.556 2.098,-3.556 ; 2.098,3.556 2.402,3.556 2.098,3.556 ; 2.598,-3.556 2.902,-3.556 2.598,-3.556 ; 2.598,3.556 2.902,3.556 2.598,3.556 ; 3.556,-2.902 3.556,-2.598 3.556,-2.902 ; 3.556,-2.402 3.556,-2.098 3.556,-2.402 ; 3.556,-1.902 3.556,-1.598 3.556,-1.902 ; 3.556,-1.402 3.556,-1.098 3.556,-1.402 ; 3.556,-0.902 3.556,-0.598 3.556,-0.902 ; 3.556,-0.402 3.556,-0.098 3.556,-0.402 ; 3.556,0.098 3.556,0.402 3.556,0.098 ; 3.556,0.598 3.556,0.902 3.556,0.598 ; 3.556,1.098 3.556,1.402 3.556,1.098 ; 3.556,1.598 3.556,1.902 3.556,1.598 ; 3.556,2.098 3.556,2.402 3.556,2.098 ; 3.556,2.598 3.556,2.902 3.556,2.598
Mechanical 15:
  circle w0.2: c0,0 r0.5
  lines w0.152: -4.11,-3.131 -4.11,3.131 -3.81,3.131 -3.81,3.81 -3.131,3.81 -3.131,4.11 3.131,4.11 3.131,3.81 3.81,3.81 3.81,3.131 4.11,3.131 4.11,-3.131 3.81,-3.131 3.81,-3.81 3.131,-3.81 3.131,-4.11 -3.131,-4.11 -3.131,-3.81 -3.81,-3.81 -3.81,-3.131 -4.11,-3.131
  lines w0.2: -1,0 0,0 ; 0,-1 0,0 ; 0,1 0,0 ; 1,0 0,0
3D body "UFQFPN-48_7X7X0P55MM.step": height 0.61, standoff 0, extent -3.556,-3.556 3.556,3.556

## UFQFPN-48_7X7X0P55MM-L [mm]
pads (49):
  rect 0.708x0.255 smd: 1(-3.402,2.75) 2(-3.402,2.25) 3(-3.402,1.75) 4(-3.402,1.25) 5(-3.402,0.75) 6(-3.402,0.25) 7(-3.402,-0.25) 8(-3.402,-0.75) 9(-3.402,-1.25) 10(-3.402,-1.75) 11(-3.402,-2.25) 12(-3.402,-2.75) 25(3.402,-2.75) 26(3.402,-2.25) 27(3.402,-1.75) 28(3.402,-1.25) 29(3.402,-0.75) 30(3.402,-0.25) 31(3.402,0.25) 32(3.402,0.75) 33(3.402,1.25) 34(3.402,1.75) 35(3.402,2.25) 36(3.402,2.75)
  rect 0.255x0.708 smd: 13(-2.75,-3.402) 14(-2.25,-3.402) 15(-1.75,-3.402) 16(-1.25,-3.402) 17(-0.75,-3.402) 18(-0.25,-3.402) 19(0.25,-3.402) 20(0.75,-3.402) 21(1.25,-3.402) 22(1.75,-3.402) 23(2.25,-3.402) 24(2.75,-3.402) 37(2.75,3.402) 38(2.25,3.402) 39(1.75,3.402) 40(1.25,3.402) 41(0.75,3.402) 42(0.25,3.402) 43(-0.25,3.402) 44(-0.75,3.402) 45(-1.25,3.402) 46(-1.75,3.402) 47(-2.25,3.402) 48(-2.75,3.402)
  rect 5.69x5.69 smd: 49(0,0)
Top Overlay:
  region: -4.01,-1.559 -4.264,-1.559 -4.264,-1.94 -4.01,-1.94
  region: 0.941,-4.01 0.56,-4.01 0.56,-4.264 0.941,-4.264
  region: 4.01,-0.059 4.264,-0.059 4.264,-0.44 4.01,-0.44
  region: 1.441,4.01 1.06,4.01 1.06,4.264 1.441,4.264
  lines w0.152: -3.683,-3.21 -3.683,-3.683 -3.21,-3.683 ; -3.683,3.21 -3.683,3.683 -3.21,3.683 ; 3.21,-3.683 3.683,-3.683 3.683,-3.21 ; 3.21,3.683 3.683,3.683 3.683,3.21
Mechanical 13:
  lines w0.025: -3.556,2.286 -2.286,3.556 ; -3.556,-3.556 3.556,-3.556 3.556,3.556 -3.556,3.556 -3.556,-3.556 ; -3.556,-2.902 -3.556,-2.598 -3.556,-2.902 ; -3.556,-2.402 -3.556,-2.098 -3.556,-2.402 ; -3.556,-1.902 -3.556,-1.598 -3.556,-1.902 ; -3.556,-1.402 -3.556,-1.098 -3.556,-1.402 ; -3.556,-0.902 -3.556,-0.598 -3.556,-0.902 ; -3.556,-0.402 -3.556,-0.098 -3.556,-0.402 ; -3.556,0.098 -3.556,0.402 -3.556,0.098 ; -3.556,0.598 -3.556,0.902 -3.556,0.598 ; -3.556,1.098 -3.556,1.402 -3.556,1.098 ; -3.556,1.598 -3.556,1.902 -3.556,1.598 ; -3.556,2.098 -3.556,2.402 -3.556,2.098 ; -3.556,2.598 -3.556,2.902 -3.556,2.598 ; -2.902,-3.556 -2.598,-3.556 -2.902,-3.556 ; -2.902,3.556 -2.598,3.556 -2.902,3.556 ; -2.402,-3.556 -2.098,-3.556 -2.402,-3.556 ; -2.402,3.556 -2.098,3.556 -2.402,3.556 ; -1.902,-3.556 -1.598,-3.556 -1.902,-3.556 ; -1.902,3.556 -1.598,3.556 -1.902,3.556 ; -1.402,-3.556 -1.098,-3.556 -1.402,-3.556 ; -1.402,3.556 -1.098,3.556 -1.402,3.556 ; -0.902,-3.556 -0.598,-3.556 -0.902,-3.556 ; -0.902,3.556 -0.598,3.556 -0.902,3.556 ; -0.402,-3.556 -0.098,-3.556 -0.402,-3.556 ; -0.402,3.556 -0.098,3.556 -0.402,3.556 ; 0.098,-3.556 0.402,-3.556 0.098,-3.556 ; 0.098,3.556 0.402,3.556 0.098,3.556 ; 0.598,-3.556 0.902,-3.556 0.598,-3.556 ; 0.598,3.556 0.902,3.556 0.598,3.556 ; 1.098,-3.556 1.402,-3.556 1.098,-3.556 ; 1.098,3.556 1.402,3.556 1.098,3.556 ; 1.598,-3.556 1.902,-3.556 1.598,-3.556 ; 1.598,3.556 1.902,3.556 1.598,3.556 ; 2.098,-3.556 2.402,-3.556 2.098,-3.556 ; 2.098,3.556 2.402,3.556 2.098,3.556 ; 2.598,-3.556 2.902,-3.556 2.598,-3.556 ; 2.598,3.556 2.902,3.556 2.598,3.556 ; 3.556,-2.902 3.556,-2.598 3.556,-2.902 ; 3.556,-2.402 3.556,-2.098 3.556,-2.402 ; 3.556,-1.902 3.556,-1.598 3.556,-1.902 ; 3.556,-1.402 3.556,-1.098 3.556,-1.402 ; 3.556,-0.902 3.556,-0.598 3.556,-0.902 ; 3.556,-0.402 3.556,-0.098 3.556,-0.402 ; 3.556,0.098 3.556,0.402 3.556,0.098 ; 3.556,0.598 3.556,0.902 3.556,0.598 ; 3.556,1.098 3.556,1.402 3.556,1.098 ; 3.556,1.598 3.556,1.902 3.556,1.598 ; 3.556,2.098 3.556,2.402 3.556,2.098 ; 3.556,2.598 3.556,2.902 3.556,2.598
Mechanical 15:
  circle w0.2: c0,0 r0.5
  lines w0.152: -3.858,-2.979 -3.658,-2.979 -3.658,-3.658 -2.979,-3.658 -2.979,-3.858 2.979,-3.858 2.979,-3.658 3.658,-3.658 3.658,-2.979 3.858,-2.979 3.858,2.979 3.658,2.979 3.658,3.658 2.979,3.658 2.979,3.858 -2.979,3.858 -2.979,3.658 -3.658,3.658 -3.658,2.979 -3.858,2.979 -3.858,-2.979
  lines w0.2: -1,0 0,0 ; 0,-1 0,0 ; 0,1 0,0 ; 1,0 0,0
3D body "UFQFPN-48_7X7X0P55MM.step": height 0.61, standoff 0, extent -3.556,-3.556 3.556,3.556

## UFQFPN-48_7X7X0P55MM-M [mm]
pads (49):
  rect 0.908x0.255 smd: 1(-3.502,2.75) 2(-3.502,2.25) 3(-3.502,1.75) 4(-3.502,1.25) 5(-3.502,0.75) 6(-3.502,0.25) 7(-3.502,-0.25) 8(-3.502,-0.75) 9(-3.502,-1.25) 10(-3.502,-1.75) 11(-3.502,-2.25) 12(-3.502,-2.75) 25(3.502,-2.75) 26(3.502,-2.25) 27(3.502,-1.75) 28(3.502,-1.25) 29(3.502,-0.75) 30(3.502,-0.25) 31(3.502,0.25) 32(3.502,0.75) 33(3.502,1.25) 34(3.502,1.75) 35(3.502,2.25) 36(3.502,2.75)
  rect 0.255x0.908 smd: 13(-2.75,-3.502) 14(-2.25,-3.502) 15(-1.75,-3.502) 16(-1.25,-3.502) 17(-0.75,-3.502) 18(-0.25,-3.502) 19(0.25,-3.502) 20(0.75,-3.502) 21(1.25,-3.502) 22(1.75,-3.502) 23(2.25,-3.502) 24(2.75,-3.502) 37(2.75,3.502) 38(2.25,3.502) 39(1.75,3.502) 40(1.25,3.502) 41(0.75,3.502) 42(0.25,3.502) 43(-0.25,3.502) 44(-0.75,3.502) 45(-1.25,3.502) 46(-1.75,3.502) 47(-2.25,3.502) 48(-2.75,3.502)
  rect 5.69x5.69 smd: 49(0,0)
Top Overlay:
  region: -4.21,-1.559 -4.464,-1.559 -4.464,-1.94 -4.21,-1.94
  region: 0.941,-4.21 0.56,-4.21 0.56,-4.464 0.941,-4.464
  region: 4.21,-0.059 4.464,-0.059 4.464,-0.44 4.21,-0.44
  region: 1.441,4.21 1.06,4.21 1.06,4.464 1.441,4.464
  lines w0.152: -3.683,-3.21 -3.683,-3.683 -3.21,-3.683 ; -3.683,3.21 -3.683,3.683 -3.21,3.683 ; 3.21,-3.683 3.683,-3.683 3.683,-3.21 ; 3.21,3.683 3.683,3.683 3.683,3.21
Mechanical 13:
  lines w0.025: -3.556,2.286 -2.286,3.556 ; -3.556,-3.556 3.556,-3.556 3.556,3.556 -3.556,3.556 -3.556,-3.556 ; -3.556,-2.902 -3.556,-2.598 -3.556,-2.902 ; -3.556,-2.402 -3.556,-2.098 -3.556,-2.402 ; -3.556,-1.902 -3.556,-1.598 -3.556,-1.902 ; -3.556,-1.402 -3.556,-1.098 -3.556,-1.402 ; -3.556,-0.902 -3.556,-0.598 -3.556,-0.902 ; -3.556,-0.402 -3.556,-0.098 -3.556,-0.402 ; -3.556,0.098 -3.556,0.402 -3.556,0.098 ; -3.556,0.598 -3.556,0.902 -3.556,0.598 ; -3.556,1.098 -3.556,1.402 -3.556,1.098 ; -3.556,1.598 -3.556,1.902 -3.556,1.598 ; -3.556,2.098 -3.556,2.402 -3.556,2.098 ; -3.556,2.598 -3.556,2.902 -3.556,2.598 ; -2.902,-3.556 -2.598,-3.556 -2.902,-3.556 ; -2.902,3.556 -2.598,3.556 -2.902,3.556 ; -2.402,-3.556 -2.098,-3.556 -2.402,-3.556 ; -2.402,3.556 -2.098,3.556 -2.402,3.556 ; -1.902,-3.556 -1.598,-3.556 -1.902,-3.556 ; -1.902,3.556 -1.598,3.556 -1.902,3.556 ; -1.402,-3.556 -1.098,-3.556 -1.402,-3.556 ; -1.402,3.556 -1.098,3.556 -1.402,3.556 ; -0.902,-3.556 -0.598,-3.556 -0.902,-3.556 ; -0.902,3.556 -0.598,3.556 -0.902,3.556 ; -0.402,-3.556 -0.098,-3.556 -0.402,-3.556 ; -0.402,3.556 -0.098,3.556 -0.402,3.556 ; 0.098,-3.556 0.402,-3.556 0.098,-3.556 ; 0.098,3.556 0.402,3.556 0.098,3.556 ; 0.598,-3.556 0.902,-3.556 0.598,-3.556 ; 0.598,3.556 0.902,3.556 0.598,3.556 ; 1.098,-3.556 1.402,-3.556 1.098,-3.556 ; 1.098,3.556 1.402,3.556 1.098,3.556 ; 1.598,-3.556 1.902,-3.556 1.598,-3.556 ; 1.598,3.556 1.902,3.556 1.598,3.556 ; 2.098,-3.556 2.402,-3.556 2.098,-3.556 ; 2.098,3.556 2.402,3.556 2.098,3.556 ; 2.598,-3.556 2.902,-3.556 2.598,-3.556 ; 2.598,3.556 2.902,3.556 2.598,3.556 ; 3.556,-2.902 3.556,-2.598 3.556,-2.902 ; 3.556,-2.402 3.556,-2.098 3.556,-2.402 ; 3.556,-1.902 3.556,-1.598 3.556,-1.902 ; 3.556,-1.402 3.556,-1.098 3.556,-1.402 ; 3.556,-0.902 3.556,-0.598 3.556,-0.902 ; 3.556,-0.402 3.556,-0.098 3.556,-0.402 ; 3.556,0.098 3.556,0.402 3.556,0.098 ; 3.556,0.598 3.556,0.902 3.556,0.598 ; 3.556,1.098 3.556,1.402 3.556,1.098 ; 3.556,1.598 3.556,1.902 3.556,1.598 ; 3.556,2.098 3.556,2.402 3.556,2.098 ; 3.556,2.598 3.556,2.902 3.556,2.598
Mechanical 15:
  circle w0.2: c0,0 r0.5
  lines w0.152: -4.464,-3.385 -4.064,-3.385 -4.064,-4.064 -3.385,-4.064 -3.385,-4.464 3.385,-4.464 3.385,-4.064 4.064,-4.064 4.064,-3.385 4.464,-3.385 4.464,3.385 4.064,3.385 4.064,4.064 3.385,4.064 3.385,4.464 -3.385,4.464 -3.385,4.064 -4.064,4.064 -4.064,3.385 -4.464,3.385 -4.464,-3.385
  lines w0.2: -1,0 0,0 ; 0,-1 0,0 ; 0,1 0,0 ; 1,0 0,0
3D body "UFQFPN-48_7X7X0P55MM.step": height 0.61, standoff 0, extent -3.556,-3.556 3.556,3.556